# EAGLE library part 47080-4005 (library SamacSys_Parts)
MOLEX - 47080-4005 - PLUG, SATA SYSTEM, R/A, SMT Source: Datasheet <https://componentsearchengine.com/Datasheets/1/47080-4005.pdf>
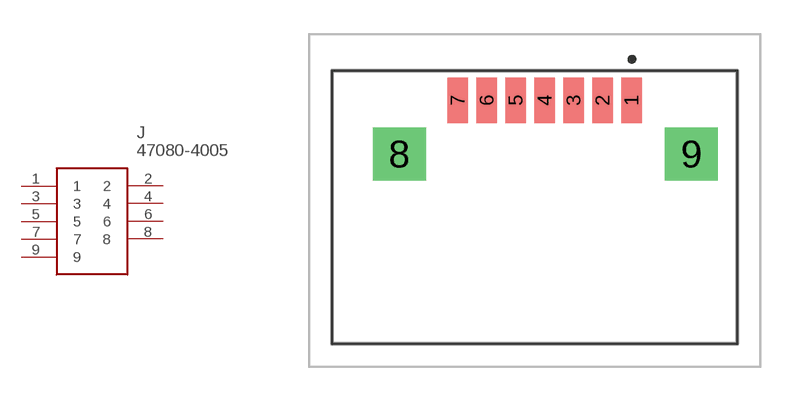
[diagram p0: symbol with the pads of 470804005; footprint 470804005]

Designator prefix J

## 47080-4005 (Description: MOLEX - 47080-4005 - PLUG, SATA SYSTEM, R/A, SMT; Height: 5mm; Manufacturer_Name: Molex; Manufacturer_Part_Number: 47080-4005; Mouser_Part_Number: 538-47080-4005; Mouser_Price-Stock: https://www.mouser.com/Search/Refine.aspx?Keyword=538-47080-4005)  [470804005]
1  1
2  2
3  3
4  4
5  5
6  6
7  7
8  8
9  9

## Footprint 470804005 (pad centres in mm)
47080-4005
smd 0.9 x 2: 1 4.25,4.398; 2 2.98,4.398; 3 1.71,4.398; 4 0.44,4.398; 5 -0.83,4.398; 6 -2.1,4.398; 7 -3.37,4.398
drill 1.55 pad 2.325 square: 8 -5.93,2.038; 9 6.87,2.038